# EAGLE library part LED_TACTILE_BUTTON (library Synapseware-Electromechanical)
This is a simple LED-illuminated tactile button with a clear cap. It's just like a basic tactile button, but it lights up white! So now you can get visual feedback, or light up your project. These have a 12mm body and are rated for 50mA. They don't easily fit into a breadboard, but check below for a breakout board. We also have these in a a variety of colors, check below to see the others. https://www.sparkfun.com/products/10439
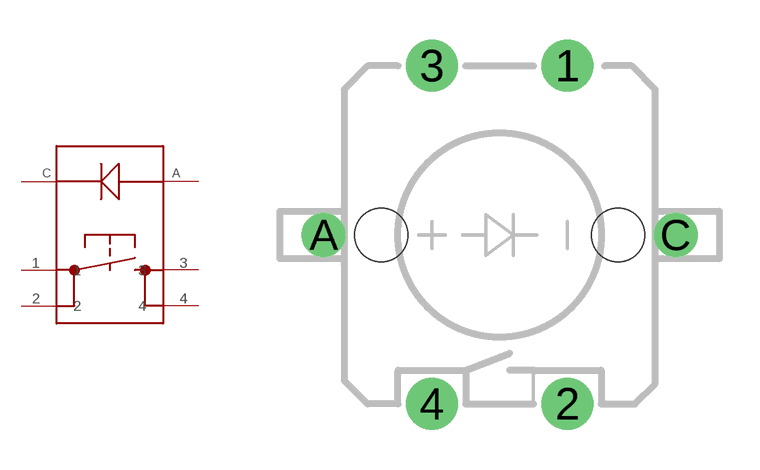
[diagram p0: symbol with the pads of LED_TACTILE_BUTTON; footprint LED_TACTILE_BUTTON]

Designator prefix -

## LED_TACTILE_BUTTON  [LED_TACTILE_BUTTON]
1  1
2  2
3  3
4  4
A  A
C  C

## Footprint LED_TACTILE_BUTTON (pad centres in mm)
drill 1.3: 1 5.08,12.7; 2 5.08,0; 3 0,12.7; 4 0,0
drill 1.1: A -4.064,6.35; C 9.144,6.35
hole 2 at -1.905,6.35
hole 2 at 6.985,6.35